# Altium schematic symbol library HRS4(H)_Relay.SchLib: 1 symbol
Pins are listed as number, name and electrical type; pins without a type are passive.

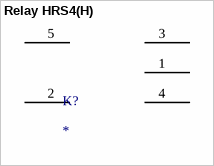
[diagram p0: symbol Relay HRS4(H)]

## Relay HRS4(H)
designator K?
footprint Relay HRS4(H)
pins: 1, 2, 3, 4, 5